# Altium footprint library CAPACITORS_MKlib.PcbLib: 35 footprints (part 2 of 3)
Each footprint in its own frame and in the unit in brackets; x right, y up, seen from the top. Pads: shape width x height; smd on the part's side, far side on the other; paste and mask are expansions set on the pad; w line width, h text height; cw(c..) or ccw(c..) is an arc to the next point about the centre after c.
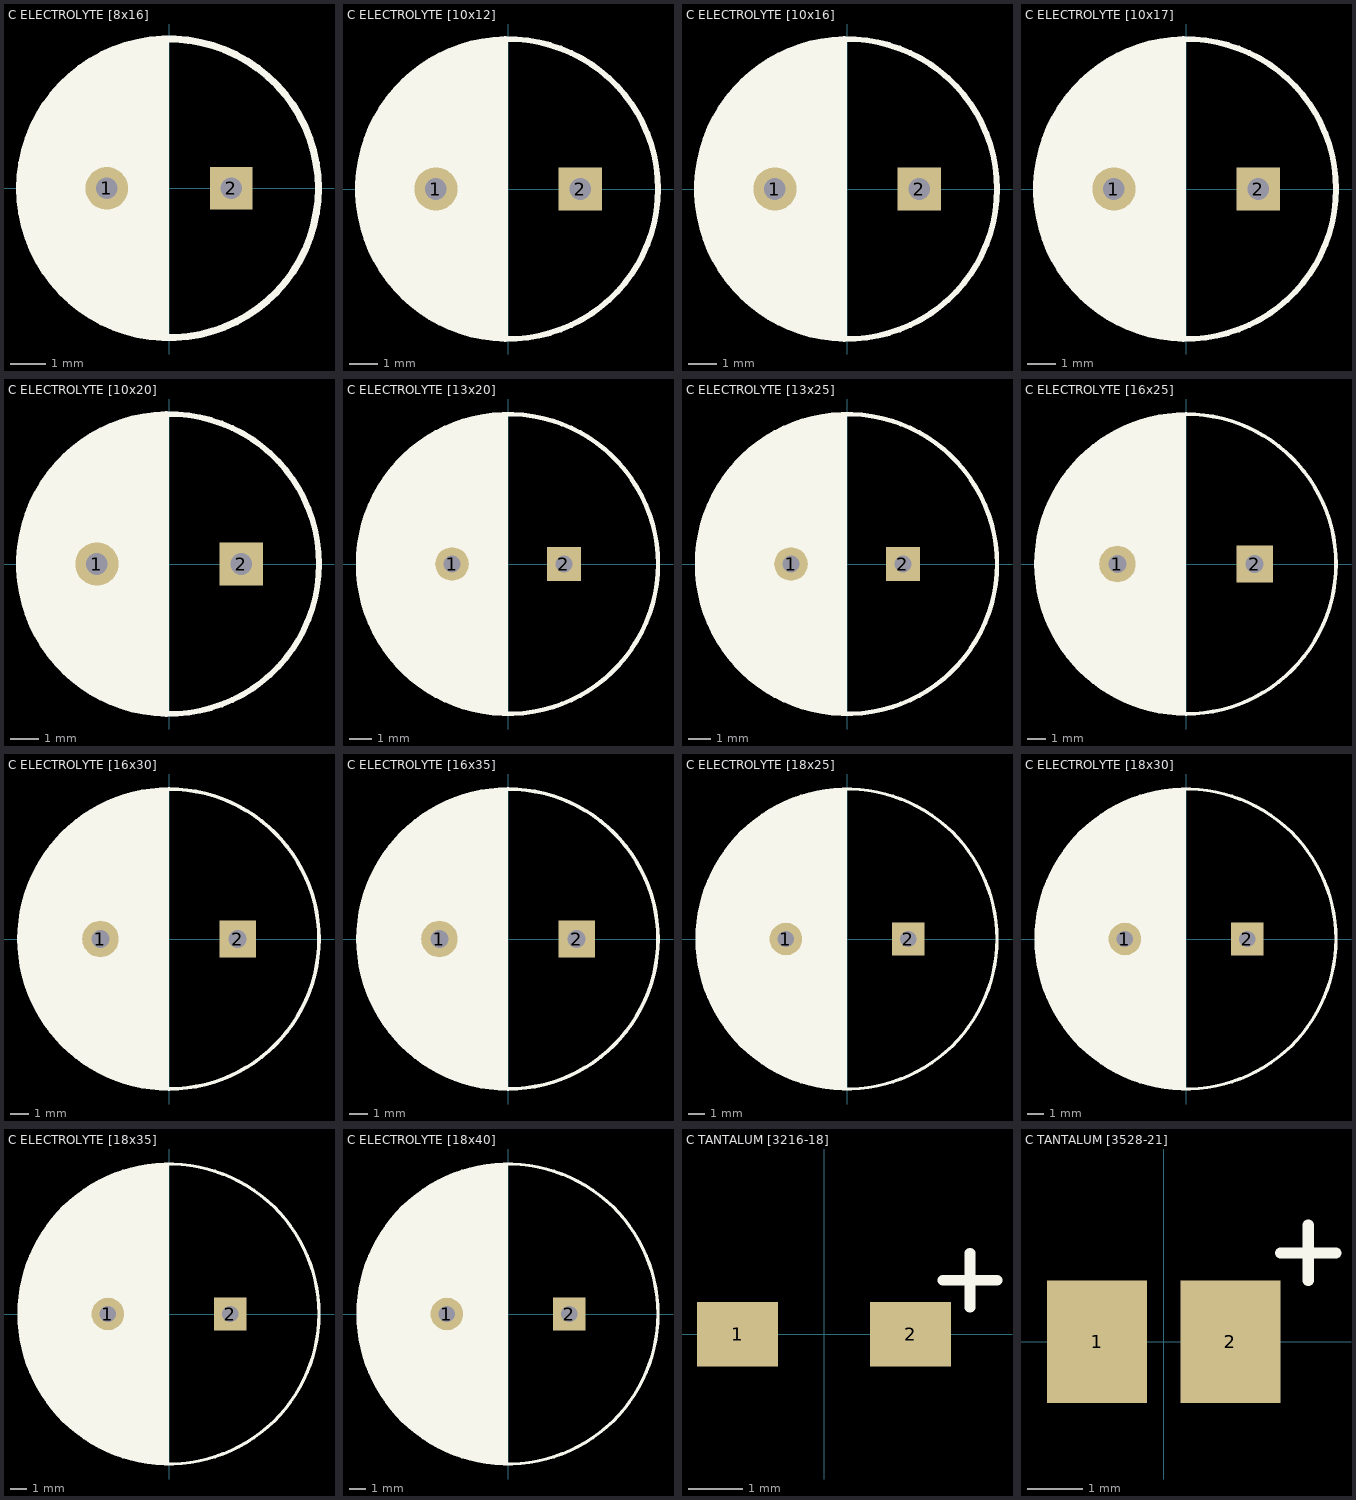
[diagram p1: the footprints below, top view; thin cyan lines are the x and y axes]

## C ELECTROLYTE [8x16] [mm]
pads (2):
  round 1.2 hole 0.6: 1(-1.75,0)
  rect 1.2x1.2 hole 0.6: 2(1.75,0)
Top Overlay:
  circle w0.2: c0,0 r4.2
  region: -0.1,4.17 -1.376,3.934 -2.1,3.6 -2.55,3.3 -3.2,2.7 -3.7,1.9 -4.1,0.7 -4.138,-0.612 -3.95,-1.3 -3.7,-2 -3.35,-2.45 -2.5,-3.35 -1.662,-3.872 -0.103,-4.236 -0.038,-2.157
  lines w0.2: -0.1,-4.15 -0.1,4.15
3D body "C_al_el_-3.5-8x16-black.step": height 16, standoff -3, extent -4.001,-3.999 4,3.999

## C ELECTROLYTE [10x12] [mm]
pads (2):
  round 1.5 hole 0.75: 1(-2.5,0)
  rect 1.5x1.5 hole 0.75: 2(2.5,0)
Top Overlay:
  circle w0.2: c0,0 r5.2
  region: -0.102,5.15 -0.856,5.15 -2.55,4.55 -3.65,3.7 -4.4,2.75 -4.874,1.706 -5.176,0.375 -5.1,-0.8 -4.75,-1.95 -4.25,-2.95 -3.65,-3.65 -2.85,-4.3 -2.085,-4.803 -0.101,-5.2 -0.038,-2.157
  lines w0.2: -0.1,-5.15 -0.1,5.1
3D body "C_al_el_-5.0-10x12-black.step": height 12, standoff -3, extent -5.001,-4.997 5,4.997

## C ELECTROLYTE [10x16] [mm]
pads (2):
  round 1.5 hole 0.75: 1(-2.5,0)
  rect 1.5x1.5 hole 0.75: 2(2.5,0)
Top Overlay:
  circle w0.2: c0,0 r5.2
  region: -0.102,5.15 -0.856,5.15 -2.55,4.55 -3.65,3.7 -4.4,2.75 -4.874,1.706 -5.176,0.375 -5.1,-0.8 -4.75,-1.95 -4.25,-2.95 -3.65,-3.65 -2.85,-4.3 -2.085,-4.803 -0.101,-5.2 -0.038,-2.157
  lines w0.2: -0.1,-5.15 -0.1,5.1
3D body "C_al_el_-5.0-10x16-black.step": height 16, standoff -3, extent -5.001,-4.997 5,4.997

## C ELECTROLYTE [10x17] [mm]
pads (2):
  round 1.5 hole 0.75: 1(-2.5,0)
  rect 1.5x1.5 hole 0.75: 2(2.5,0)
Top Overlay:
  circle w0.2: c0,0 r5.2
  region: -0.102,5.15 -0.856,5.15 -2.55,4.55 -3.65,3.7 -4.4,2.75 -4.874,1.706 -5.176,0.375 -5.1,-0.8 -4.75,-1.95 -4.25,-2.95 -3.65,-3.65 -2.85,-4.3 -2.085,-4.803 -0.101,-5.2 -0.038,-2.157
  lines w0.2: -0.1,-5.15 -0.1,5.1
3D body "C_al_el_-5.0-10x17-black.step": height 17, standoff -3, extent -5.001,-4.997 5,4.997

## C ELECTROLYTE [10x20] [mm]
pads (2):
  round 1.5 hole 0.75: 1(-2.5,0)
  rect 1.5x1.5 hole 0.75: 2(2.5,0)
Top Overlay:
  circle w0.2: c0,0 r5.2
  region: -0.102,5.15 -0.856,5.15 -2.55,4.55 -3.65,3.7 -4.4,2.75 -4.874,1.706 -5.176,0.375 -5.1,-0.8 -4.75,-1.95 -4.25,-2.95 -3.65,-3.65 -2.85,-4.3 -2.085,-4.803 -0.101,-5.2 -0.038,-2.157
  lines w0.2: -0.1,-5.15 -0.1,5.1
3D body "C_al_el_-5.0-10x20-black.step": height 20, standoff -3, extent -5.001,-4.997 5,4.997

## C ELECTROLYTE [13x20] [mm]
pads (2):
  round 1.5 hole 0.75: 1(-2.5,0)
  rect 1.5x1.5 hole 0.75: 2(2.5,0)
Top Overlay:
  circle w0.2: c0,0 r6.7
  region: -0.101,6.65 -1.37,6.586 -3.442,5.837 -4.485,4.948 -5.1,4.3 -6.023,2.97 -6.388,1.999 -6.609,0.947 -6.692,-0.767 -6.316,-2.157 -6,-2.95 -5.456,-3.871 -4.596,-4.965 -2.485,-6.311 -0.49,-6.65 -0.102,-6.657 -0.038,-2.157
  lines w0.2: -0.1,-6.6 -0.1,6.65
3D body "C_al_el_-5.0-13x20-black.step": height 20, standoff -3, extent -6.501,-6.5 6.5,6.5

## C ELECTROLYTE [13x25] [mm]
pads (2):
  round 1.5 hole 0.75: 1(-2.5,0)
  rect 1.5x1.5 hole 0.75: 2(2.5,0)
Top Overlay:
  circle w0.2: c0,0 r6.7
  region: -0.101,6.65 -1.37,6.586 -3.442,5.837 -4.485,4.948 -5.1,4.3 -6.023,2.97 -6.388,1.999 -6.609,0.947 -6.692,-0.767 -6.316,-2.157 -6,-2.95 -5.456,-3.871 -4.596,-4.965 -2.485,-6.311 -0.49,-6.65 -0.102,-6.657 -0.038,-2.157
  lines w0.2: -0.1,-6.6 -0.1,6.65
3D body "C_al_el_-5.0-13x25-black.step": height 25, standoff -3, extent -6.501,-6.491 6.49,6.491

## C ELECTROLYTE [16x25] [mm]
pads (2):
  round 2 hole 1: 1(-3.75,0)
  rect 2x2 hole 1: 2(3.75,0)
Top Overlay:
  circle w0.2: c0,0 r8.2
  region: -0.102,8.15 -1.25,8.1 -2.395,7.859 -3.728,7.319 -5.495,6.137 -6.85,4.5 -7.55,3.15 -7.95,1.95 -8.2,0.4 -8.1,-1.2 -7.75,-2.75 -7,-4.25 -6.023,-5.5 -4.9,-6.55 -3.25,-7.5 -1.85,-8 -0.102,-8.15 -0.038,-2.157
  lines w0.2: -0.1,-8.15 -0.1,8.15
3D body "ElCapVT-7.5-16x25-black.step": height 25, standoff -3, extent -8.001,-7.99 8,7.99

## C ELECTROLYTE [16x30] [mm]
pads (2):
  round 2 hole 1: 1(-3.75,0)
  rect 2x2 hole 1: 2(3.75,0)
Top Overlay:
  circle w0.2: c0,0 r8.2
  region: -0.102,8.15 -1.25,8.1 -2.45,7.85 -3.728,7.319 -5.495,6.137 -6.85,4.5 -7.55,3.15 -7.95,1.95 -8.2,0.4 -8.1,-1.2 -7.75,-2.75 -7,-4.25 -6.023,-5.5 -4.9,-6.55 -3.25,-7.5 -1.85,-8 -0.102,-8.15 -0.038,-2.157
  lines w0.2: -0.1,-8.15 -0.1,8.15
3D body "ElCapVT-7.5-16x30-black.step": height 30, standoff -3, extent -8.001,-7.991 8,7.991

## C ELECTROLYTE [16x35] [mm]
pads (2):
  round 2 hole 1: 1(-3.75,0)
  rect 2x2 hole 1: 2(3.75,0)
Top Overlay:
  circle w0.2: c0,0 r8.2
  region: -0.102,8.15 -1.353,8.095 -2.364,7.856 -3.649,7.372 -5.495,6.137 -6.85,4.5 -7.55,3.15 -7.95,1.95 -8.2,0.4 -8.1,-1.2 -7.75,-2.75 -7,-4.25 -6.023,-5.5 -4.9,-6.55 -3.25,-7.5 -1.85,-8 -0.102,-8.15 -0.038,-2.157
  lines w0.2: -0.1,-8.15 -0.1,8.15
3D body "ElCapVT-7.5-16x35-black.step": height 35, standoff -3, extent -8.001,-8 7.99,8

## C ELECTROLYTE [18x25] [mm]
pads (2):
  round 2 hole 1: 1(-3.75,0)
  rect 2x2 hole 1: 2(3.75,0)
Top Overlay:
  circle w0.2: c0,0 r9.2
  region: -0.102,9.142 -1.181,9.142 -2.55,8.8 -4.025,8.275 -5.7,7.2 -6.718,6.324 -7.7,5.05 -8.25,4.05 -8.65,3.05 -9.006,1.961 -9.126,0.4 -9.126,-0.874 -8.9,-2.1 -8.558,-3.297 -7.984,-4.607 -7.039,-5.897 -5.626,-7.269 -4.441,-8.042 -3.25,-8.55 -2.189,-8.887 -0.4,-9.198 -0.102,-9.198 -0.038,-2.157
  lines w0.2: -0.1,-9.15 -0.1,9.15
3D body "ElCapVT-7.5-18x25-black.step": height 25, standoff -3, extent -9.001,-8.999 8.987,8.999

## C ELECTROLYTE [18x30] [mm]
pads (2):
  round 2 hole 1: 1(-3.75,0)
  rect 2x2 hole 1: 2(3.75,0)
Top Overlay:
  circle w0.2: c0,0 r9.2
  region: -0.102,9.142 -1.181,9.142 -2.55,8.8 -4.025,8.275 -5.7,7.2 -6.718,6.324 -7.7,5.05 -8.25,4.05 -8.65,3.05 -9.006,1.961 -9.126,0.4 -9.126,-0.874 -8.9,-2.1 -8.558,-3.297 -7.984,-4.607 -7.039,-5.897 -5.626,-7.269 -4.441,-8.042 -3.25,-8.55 -2.189,-8.887 -0.4,-9.198 -0.102,-9.198 -0.038,-2.157
  lines w0.2: -0.1,-9.15 -0.1,9.15
3D body "ElCapVT-7.5-18x30-black.step": height 30, standoff -3, extent -9.001,-8.995 8.99,8.995

## C ELECTROLYTE [18x35] [mm]
pads (2):
  round 2 hole 1: 1(-3.75,0)
  rect 2x2 hole 1: 2(3.75,0)
Top Overlay:
  circle w0.2: c0,0 r9.2
  region: -0.102,9.142 -1.181,9.142 -2.55,8.8 -4.025,8.275 -5.7,7.2 -6.718,6.324 -7.7,5.05 -8.25,4.05 -8.65,3.05 -9.006,1.961 -9.126,0.4 -9.126,-0.874 -8.9,-2.1 -8.558,-3.297 -7.984,-4.607 -7.039,-5.897 -5.626,-7.269 -4.441,-8.042 -3.25,-8.55 -2.189,-8.887 -0.4,-9.198 -0.102,-9.198 -0.038,-2.157
  lines w0.2: -0.1,-9.15 -0.1,9.15
3D body "ElCapVT-7.5-18x35-black.step": height 35, standoff -3, extent -9.001,-8.987 8.981,8.987

## C ELECTROLYTE [18x40] [mm]
pads (2):
  round 2 hole 1: 1(-3.75,0)
  rect 2x2 hole 1: 2(3.75,0)
Top Overlay:
  circle w0.2: c0,0 r9.2
  region: -0.102,9.142 -1.181,9.142 -2.55,8.8 -4.025,8.275 -5.7,7.2 -6.718,6.324 -7.7,5.05 -8.25,4.05 -8.65,3.05 -9.006,1.961 -9.126,0.4 -9.126,-0.874 -8.9,-2.1 -8.558,-3.297 -7.984,-4.607 -7.039,-5.897 -5.626,-7.269 -4.441,-8.042 -3.25,-8.55 -2.189,-8.887 -0.4,-9.198 -0.102,-9.198 -0.038,-2.157
  lines w0.2: -0.1,-9.15 -0.1,9.15
3D body "ElCapVT-7.5-18x40-black.step": height 40, standoff -3, extent -9.001,-9 8.99,9

## C TANTALUM [3216-18] [mm] "Tantalum SMD capacitor 3.2x3.2x1.6 (mm) Type-A"
pads (2):
  rect 1.5x1.2 smd: 1(-1.6,0) 2(1.6,0)
Top Overlay:
  lines w0.2: 2.2,1 3.2,1 ; 2.7,0.5 2.7,1.5
3D body "C_tantalum_SMD1.STEP": height 1.8, standoff 0, extent -1.6,-0.8 1.6,0.8

## C TANTALUM [3528-21] [mm] "Tantalum SMD capacitor 3.5x2.8x1.9 (mm) Type-B"
pads (2):
  rect 1.8x2.2 smd: 1(-1.2,0) 2(1.2,0)
Top Overlay:
  lines w0.2: 2.1,1.6 3.1,1.6 ; 2.6,1.1 2.6,2.1
3D body "c_tantalum_3528-21.STEP": height 2.1, standoff 0, extent -1.75,-1.4 1.75,1.4